# Altium schematic symbol library TransientBLE.SCHLIB: 64 symbols (part 2 of 2)
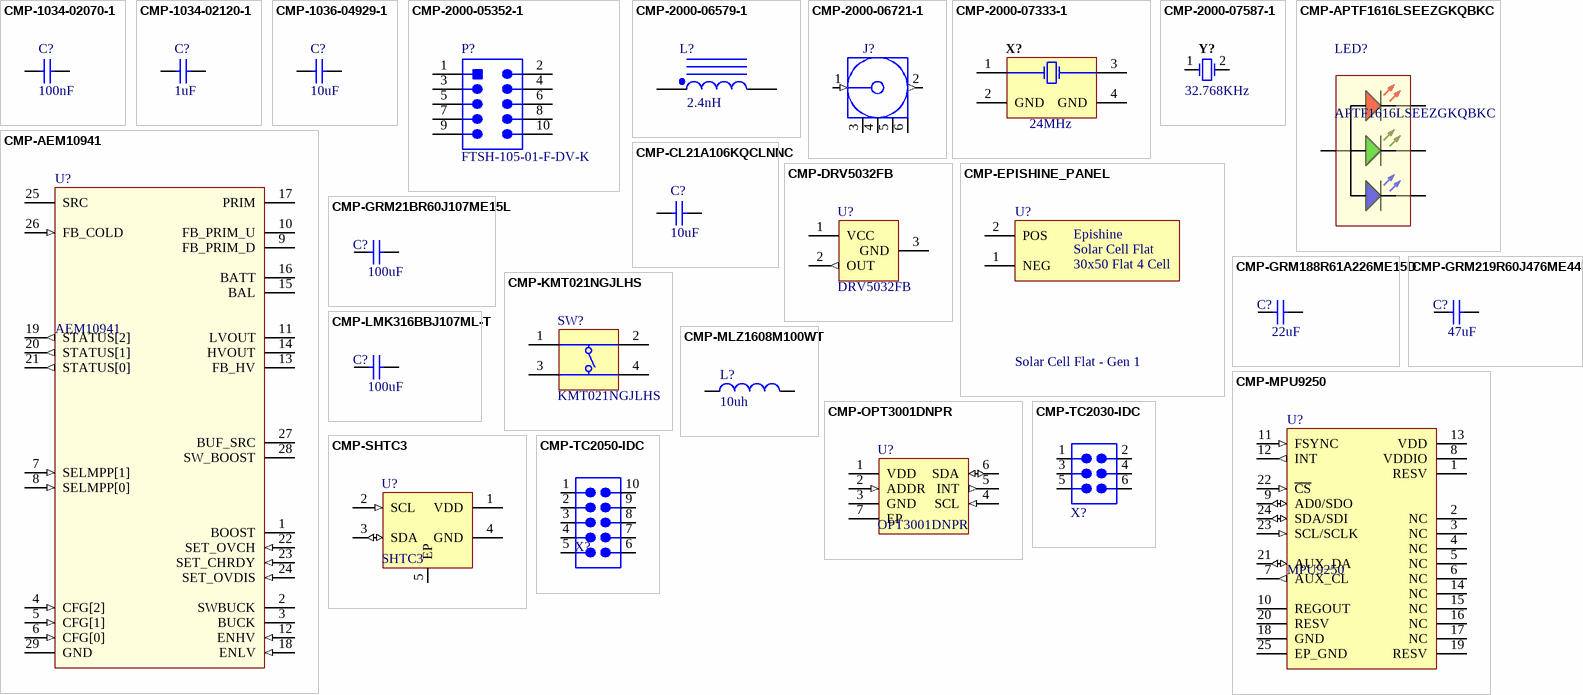
[diagram p2: symbols CMP-1034-02070-1 to CMP-TC2050-IDC]

## CMP-MPU9250
designator U?, comment MPU9250
Accelerometer, Gyroscope, Magnetometer, 9 Axis Sensor I²C, SPI Output; Manufacturer: TDK InvenSense; Output Type: Digital; Mounting Type: Surface Mount; Pin Count: 24; Package Type: QFN; Dimensions: 3 x 3 mm; Manufacturer Part Number: MPU-9250; Supplier: Digikey; Supplier Part Number: 1428-1019-1-ND; ComponentLink1Description: 1905459.pdf; ComponentLink1URL: http://www.farnell.com/datasheets/1905459.pdf; ComponentLink2Description: 0900766b813ddc9f.pdf; ComponentLink2URL: http://uk.rs-online.com/webdocs/13dd/0900766b813ddc9f.pdf
footprint QFN40P300X300X105-24NTP
pins: 1 RESV, 2 NC, 3 NC, 4 NC, 5 NC, 6 NC, 7 AUX_CL (out), 8 VDDIO (power), 9 AD0/SDO (io), 10 REGOUT, 11 FSYNC (in), 12 INT (out), 13 VDD (power), 14 NC (power), 15 NC (power), 16 NC (power), 17 NC (power), 18 GND (power), 19 RESV, 20 RESV, 21 AUX_DA (io), 22 ~{CS} (in), 23 SCL/SCLK (in), 24 SDA/SDI (io), 25 EP_GND (power)

## CMP-OPT3001DNPR
designator U?, comment OPT3001DNPR
Optical Sensor Ambient 550nm I²C 6-UDFN Exposed Pad; Manufacturer: Texas Instruments; Packaging: Cut Tape (CT); Part Status: Active; Mounting Type: Surface Mount; Features: -; Operating Temperature: -40°C ~ 85°C; Manufacturer Part Number: OPT3001DNPR; Supplier: Digi-Key; Supplier Part Number: 296-40474-1-ND; ComponentLink1Description: kmr2.pdf; ComponentLink1URL: http://www.ck-components.com/media/1479/kmr2.pdf
footprint UDFN40P200X200X65-6N-TP
pins: 1 VDD (power), 2 ADDR (in), 3 GND (power), 4 SCL (in), 5 INT (out), 6 SDA (io), 7 EP (power)

## CMP-SHTC3
designator U?, comment SHTC3
Humidity Temperature Sensor 0 ~ 100% RH I²C ±2% RH 8s Surface Mount; Manufacturer: Sensirion AG; Packaging: Cut Tape (CT); Part Status: Active; Mounting Type: Surface Mount; Features: -; Operating Temperature: -40°C ~ 125°C; Manufacturer Part Number: SHTC3; Supplier: Digi-Key; Supplier Part Number: 1649-1100-1-ND
footprint WDFN100P200X200X75-4N-TP
pins: 1 VDD (power), 2 SCL (in), 3 SDA (io), 4 GND (power), 5 EP (power)

## CMP-TC2030-IDC
designator X?, comment TC2030-IDC  (value not drawn)  (no BOM)
PCB tag connection for TC2030-IDC Cable; Manufacturer: Tag-Connect LLC; ComponentLink1Description: 1914865-46395854.pdf; ComponentLink1URL: https://datasheet.ciiva.com/46395/1914865-46395854.pdf; ComponentLink2Description: 68000-728879.pdf; ComponentLink3URL: https://datasheet.ciiva.com/16726/68000-16726213.pdf; ComponentLink3Description: 68000-16726213.pdf; ComponentLink2URL: https://datasheet.ciiva.com/728/68000-728879.pdf; ComponentLink4Description: 68000-10149830.pdf; ComponentLink4URL: https://datasheet.ciiva.com/10149/68000-10149830.pdf
pins: 1, 2, 3, 4, 5, 6

## CMP-TC2050-IDC
designator X?, comment TC2050-IDC  (value not drawn)  (no BOM)
PCB tag connection for TC2050-IDC Cable; Manufacturer: Tag-Connect LLC
footprint TC2050-IDC
footprint TC2050-IDC-NL
pins: 1, 2, 3, 4, 5, 6, 7, 8, 9, 10